# Altium footprint library DSubConnectors.PcbLib: 1 footprints
Each footprint in its own frame and in the unit in brackets; x right, y up, seen from the top. Pads: shape width x height; smd on the part's side, far side on the other; paste and mask are expansions set on the pad; w line width, h text height; cw(c..) or ccw(c..) is an arc to the next point about the centre after c.
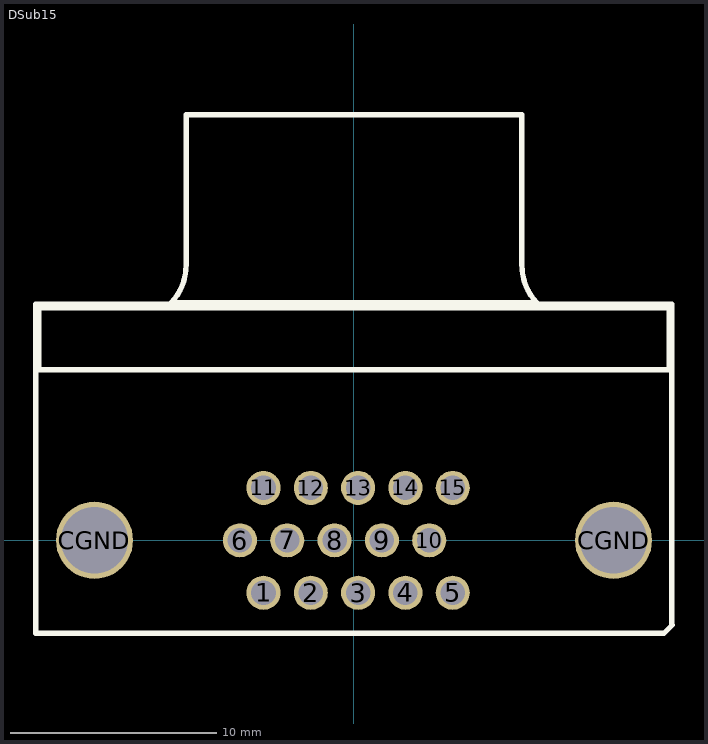
[diagram p0: the footprint, top view; thin cyan lines are the x and y axes]

## DSub15 [mil] "3 Row 15 Pin Female Right Angle Connector Tyco PN 1734344"
pads (17):
  round 65 hole 46.85: 1(-172.44,-100) 2(-82.28,-100) 3(7.87,-100) 4(98.03,-100) 5(188.19,-100) 6(-217.32,0) 7(-127.17,0) 8(-37.01,0) 9(53.15,0) 10(143.31,0) 11(-172.44,100) 12(-82.28,100) 13(7.87,100) 14(98.03,100) 15(188.19,100)
  round 147 hole 126.77: CGND(-494.49,0) CGND(494.49,0)
Top Overlay:
  lines w10: -350.21,450.97 ccw(c-423.42,524.19) -319.88,524.19 -319.88,811.02 319.88,811.02 319.88,524.19 ccw(c423.42,524.19) 350.21,450.97 ; -344.49,452.76 344.49,452.76 ; -606.3,-177.17 590.55,-177.17 606.3,-161.42 605.32,-160.43 605.32,449.8 -606.3,449.8 -606.3,-177.17 ; -600.39,324.8 600.39,324.8 600.39,442.91 -600.39,442.91 -600.39,324.8
3D body: height 501.97, standoff -127.95, extent -606.3,-177.17 606.3,688.98